# Altium schematic symbol library SCH - DRIVER - LED - TI TPS92630-Q1PWP.SchLib: 1 symbol
Pins are listed as number, name and electrical type; pins without a type are passive.

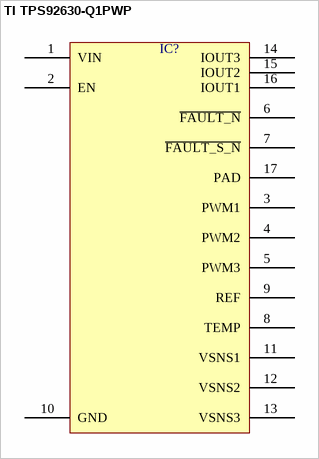
[diagram p0: symbol TI TPS92630-Q1PWP]

## TI TPS92630-Q1PWP
designator IC?  (value not drawn)
pins: 1 VIN, 2 EN, 3 PWM1, 4 PWM2, 5 PWM3, 6 ~{FAULT_N}, 7 ~{FAULT_S_N}, 8 TEMP, 9 REF, 10 GND, 11 VSNS1, 12 VSNS2, 13 VSNS3, 14 IOUT3, 15 IOUT2, 16 IOUT1, 17 PAD